# Altium schematic symbol library LightSaber.SchLib: 7 symbols
Pins are listed as number, name and electrical type; pins without a type are passive.

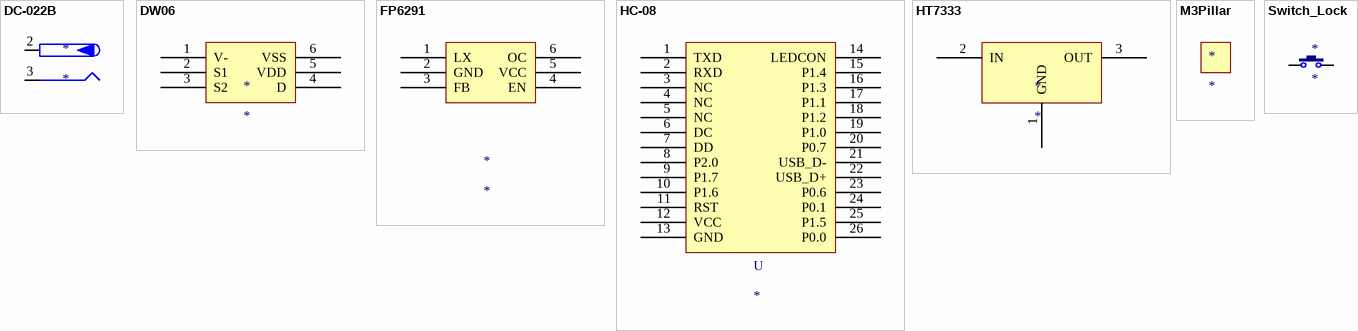
[diagram p0: symbols DC-022B to Switch_Lock]

## DC-022B
designator *
footprint DC-022B
pins: 2 (power), 3 (power)

## DW06
designator *
footprint SOT23-6N (3x1.6x1.1mm(长宽高))
pins: 1 V-, 2 S1, 3 S2, 4 D, 5 VDD, 6 VSS

## FP6291
designator *
footprint SOT23-6 (SOT-23/SC-74A; 5 Leads; Body 3.1 x 3 mm, inc. leads (LxW max))
pins: 1 LX, 2 GND, 3 FB, 4 EN, 5 VCC, 6 OC

## HC-08
designator U
footprint HC-08V20/22/41
pins: 1 TXD, 2 RXD, 3 NC, 4 NC, 5 NC, 6 DC, 7 DD, 8 P2.0, 9 P1.7, 10 P1.6, 11 RST, 12 VCC, 13 GND, 14 LEDCON, 15 P1.4, 16 P1.3, 17 P1.1, 18 P1.2, 19 P1.0, 20 P0.7, 21 USB_D-, 22 USB_D+, 23 P0.6, 24 P0.1, 25 P1.5, 26 P0.0

## HT7333
designator *
footprint SOT89_M (4.6x4.3x1.6mm(长宽高))
pins: 1 GND, 2 IN, 3 OUT

## M3Pillar
designator *
footprint M3x4_L (M3铜柱，长：4mm)

## Switch_Lock
designator *
footprint Switch_Lock
pins: 1, 2